# Altium integrated library Diodes - TVS.IntLib: 5379 symbols (part 8 of 122)
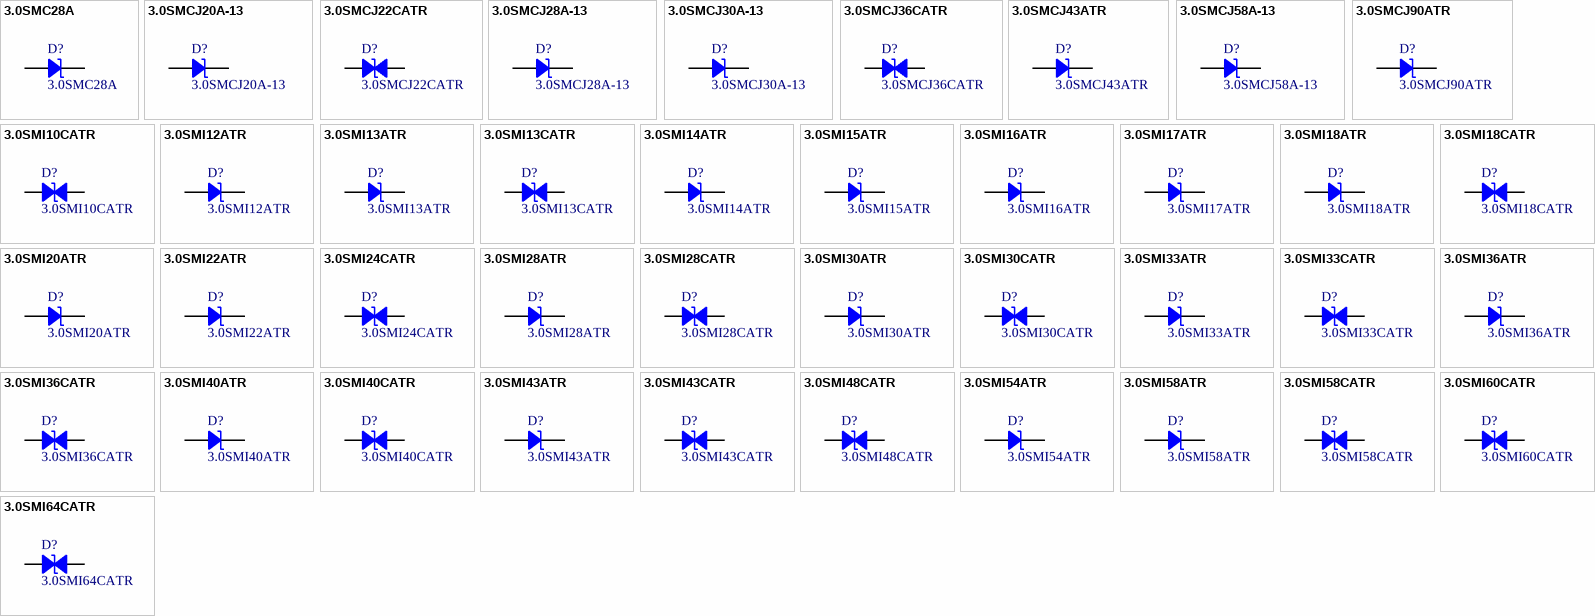
[diagram p141: symbols 3.0SMC28A to 3.0SMI64CATR]

## 3.0SMI30ATR
designator D?
DIODE TRANSIENT VOLTAGE SUPPRESS; Manufacturer: SMC Diode Solutions; Current - Peak Pulse (10/1000µs): 62A; Power Line Protection: No; Power - Peak Pulse: 3000W (3kW); Type: Zener; Unidirectional Channels: 1; Voltage - Breakdown (Min): 33.3V; Voltage - Clamping (Max) @ Ipp: 48.4V; Voltage - Reverse Standoff (Typ): 30V; Part Number: 3.0SMI30ATR; Applications: General Purpose; ComponentLink1Description: Datasheet; ComponentLink1URL: http://www.smc-diodes.com/propdf/3.0SMI%20SERIES%20N1804%20REV.A.pdf; ComponentLink2Description: DigiKey Link; ComponentLink2URL: http://digikey.com/product-detail/en/smc-diode-solutions/3.0SMI30ATR/1655-2059-1-ND/9566377; LastUpdated: 9/2/2020 1:20:03 AM; Lifecycle Status: Active; Minimum Order: 1; Mounting Type: Surface Mount; Operating Temperature: -55°C ~ 150°C (TJ); Package / Case: DO-214AB, SMC; Packaging: TapeAndReel; PartId: 6734; Part Status: Active; Price: 0.19; Series: 3.0SMI; Supplier 1: DigiKey; Supplier Part Number 1: 1655-2059-1-ND; Supplier Device Package: SMC (DO-214AB)
footprint DO214AB SMC
pins: 1, 2

## 3.0SMI30CATR
designator D?
DIODE TRANSIENT VOLTAGE SUPPRESS; Manufacturer: SMC Diode Solutions; Bidirectional Channels: 1; Current - Peak Pulse (10/1000µs): 62A; Power Line Protection: No; Power - Peak Pulse: 3000W (3kW); Type: Zener; Voltage - Breakdown (Min): 33.3V; Voltage - Clamping (Max) @ Ipp: 48.4V; Voltage - Reverse Standoff (Typ): 30V; Part Number: 3.0SMI30CATR; Applications: General Purpose; ComponentLink1Description: Datasheet; ComponentLink1URL: http://www.smc-diodes.com/propdf/3.0SMI%20SERIES%20N1804%20REV.A.pdf; ComponentLink2Description: DigiKey Link; ComponentLink2URL: http://digikey.com/product-detail/en/smc-diode-solutions/3.0SMI30CATR/1655-2060-1-ND/9566378; LastUpdated: 9/2/2020 1:28:05 AM; Lifecycle Status: Active; Minimum Order: 1; Mounting Type: Surface Mount; Operating Temperature: -55°C ~ 150°C (TJ); Package / Case: DO-214AB, SMC; Packaging: TapeAndReel; PartId: 8362; Part Status: Active; Price: 0.19; Series: 3.0SMI; Supplier 1: DigiKey; Supplier Part Number 1: 1655-2060-1-ND; Supplier Device Package: SMC (DO-214AB)
footprint DO214AB SMC
pins: 1, 2

## 3.0SMI33ATR
designator D?
DIODE TRANSIENT VOLTAGE SUPPRESS; Manufacturer: SMC Diode Solutions; Current - Peak Pulse (10/1000µs): 56.3A; Power Line Protection: No; Power - Peak Pulse: 3000W (3kW); Type: Zener; Unidirectional Channels: 1; Voltage - Breakdown (Min): 36.7V; Voltage - Clamping (Max) @ Ipp: 53.3V; Voltage - Reverse Standoff (Typ): 33V; Part Number: 3.0SMI33ATR; Applications: General Purpose; ComponentLink1Description: Datasheet; ComponentLink1URL: http://www.smc-diodes.com/propdf/3.0SMI%20SERIES%20N1804%20REV.A.pdf; ComponentLink2Description: DigiKey Link; ComponentLink2URL: http://digikey.com/product-detail/en/smc-diode-solutions/3.0SMI33ATR/1655-2061-1-ND/9566379; LastUpdated: 9/2/2020 1:20:03 AM; Lifecycle Status: Active; Minimum Order: 1; Mounting Type: Surface Mount; Operating Temperature: -55°C ~ 150°C (TJ); Package / Case: DO-214AB, SMC; Packaging: TapeAndReel; PartId: 6740; Part Status: Active; Price: 0.19; Series: 3.0SMI; Supplier 1: DigiKey; Supplier Part Number 1: 1655-2061-1-ND; Supplier Device Package: SMC (DO-214AB)
footprint DO214AB SMC
pins: 1, 2

## 3.0SMI33CATR
designator D?
DIODE TRANSIENT VOLTAGE SUPPRESS; Manufacturer: SMC Diode Solutions; Bidirectional Channels: 1; Current - Peak Pulse (10/1000µs): 56.3A; Power Line Protection: No; Power - Peak Pulse: 3000W (3kW); Type: Zener; Voltage - Breakdown (Min): 36.7V; Voltage - Clamping (Max) @ Ipp: 53.3V; Voltage - Reverse Standoff (Typ): 33V; Part Number: 3.0SMI33CATR; Applications: General Purpose; ComponentLink1Description: Datasheet; ComponentLink1URL: http://www.smc-diodes.com/propdf/3.0SMI%20SERIES%20N1804%20REV.A.pdf; ComponentLink2Description: DigiKey Link; ComponentLink2URL: http://digikey.com/product-detail/en/smc-diode-solutions/3.0SMI33CATR/1655-2062-1-ND/9566380; LastUpdated: 9/2/2020 1:28:05 AM; Lifecycle Status: Active; Minimum Order: 1; Mounting Type: Surface Mount; Operating Temperature: -55°C ~ 150°C (TJ); Package / Case: DO-214AB, SMC; Packaging: TapeAndReel; PartId: 8361; Part Status: Active; Price: 0.19; Series: 3.0SMI; Supplier 1: DigiKey; Supplier Part Number 1: 1655-2062-1-ND; Supplier Device Package: SMC (DO-214AB)
footprint DO214AB SMC
pins: 1, 2

## 3.0SMI36ATR
designator D?
DIODE TRANSIENT VOLTAGE SUPPRESS; Manufacturer: SMC Diode Solutions; Current - Peak Pulse (10/1000µs): 51.6A; Power Line Protection: No; Power - Peak Pulse: 3000W (3kW); Type: Zener; Unidirectional Channels: 1; Voltage - Breakdown (Min): 40V; Voltage - Clamping (Max) @ Ipp: 58.1V; Voltage - Reverse Standoff (Typ): 36V; Part Number: 3.0SMI36ATR; Applications: General Purpose; ComponentLink1Description: Datasheet; ComponentLink1URL: http://www.smc-diodes.com/propdf/3.0SMI%20SERIES%20N1804%20REV.A.pdf; ComponentLink2Description: DigiKey Link; ComponentLink2URL: http://digikey.com/product-detail/en/smc-diode-solutions/3.0SMI36ATR/1655-2063-1-ND/9566381; LastUpdated: 9/2/2020 1:20:03 AM; Lifecycle Status: Active; Minimum Order: 1; Mounting Type: Surface Mount; Operating Temperature: -55°C ~ 150°C (TJ); Package / Case: DO-214AB, SMC; Packaging: TapeAndReel; PartId: 6736; Part Status: Active; Price: 0.19; Series: 3.0SMI; Supplier 1: DigiKey; Supplier Part Number 1: 1655-2063-1-ND; Supplier Device Package: SMC (DO-214AB)
footprint DO214AB SMC
pins: 1, 2

## 3.0SMI36CATR
designator D?
DIODE TRANSIENT VOLTAGE SUPPRESS; Manufacturer: SMC Diode Solutions; Bidirectional Channels: 1; Current - Peak Pulse (10/1000µs): 51.6A; Power Line Protection: No; Power - Peak Pulse: 3000W (3kW); Type: Zener; Voltage - Breakdown (Min): 40V; Voltage - Clamping (Max) @ Ipp: 58.1V; Voltage - Reverse Standoff (Typ): 36V; Part Number: 3.0SMI36CATR; Applications: General Purpose; ComponentLink1Description: Datasheet; ComponentLink1URL: http://www.smc-diodes.com/propdf/3.0SMI%20SERIES%20N1804%20REV.A.pdf; ComponentLink2Description: DigiKey Link; ComponentLink2URL: http://digikey.com/product-detail/en/smc-diode-solutions/3.0SMI36CATR/1655-2064-1-ND/9566382; LastUpdated: 9/2/2020 1:28:05 AM; Lifecycle Status: Active; Minimum Order: 1; Mounting Type: Surface Mount; Operating Temperature: -55°C ~ 150°C (TJ); Package / Case: DO-214AB, SMC; Packaging: TapeAndReel; PartId: 8346; Part Status: Active; Price: 0.19; Series: 3.0SMI; Supplier 1: DigiKey; Supplier Part Number 1: 1655-2064-1-ND; Supplier Device Package: SMC (DO-214AB)
footprint DO214AB SMC
pins: 1, 2

## 3.0SMI40ATR
designator D?
DIODE TRANSIENT VOLTAGE SUPPRESS; Manufacturer: SMC Diode Solutions; Current - Peak Pulse (10/1000µs): 46.5A; Power Line Protection: No; Power - Peak Pulse: 3000W (3kW); Type: Zener; Unidirectional Channels: 1; Voltage - Breakdown (Min): 44.4V; Voltage - Clamping (Max) @ Ipp: 64.5V; Voltage - Reverse Standoff (Typ): 40V; Part Number: 3.0SMI40ATR; Applications: General Purpose; ComponentLink1Description: Datasheet; ComponentLink1URL: http://www.smc-diodes.com/propdf/3.0SMI%20SERIES%20N1804%20REV.A.pdf; ComponentLink2Description: DigiKey Link; ComponentLink2URL: http://digikey.com/product-detail/en/smc-diode-solutions/3.0SMI40ATR/1655-2065-1-ND/9566383; LastUpdated: 9/2/2020 1:20:02 AM; Lifecycle Status: Active; Minimum Order: 1; Mounting Type: Surface Mount; Operating Temperature: -55°C ~ 150°C (TJ); Package / Case: DO-214AB, SMC; Packaging: TapeAndReel; PartId: 6567; Part Status: Active; Price: 0.19; Series: 3.0SMI; Supplier 1: DigiKey; Supplier Part Number 1: 1655-2065-1-ND; Supplier Device Package: SMC (DO-214AB)
footprint DO214AB SMC
pins: 1, 2

## 3.0SMI40CATR
designator D?
DIODE TRANSIENT VOLTAGE SUPPRESS; Manufacturer: SMC Diode Solutions; Bidirectional Channels: 1; Current - Peak Pulse (10/1000µs): 46.5A; Power Line Protection: No; Power - Peak Pulse: 3000W (3kW); Type: Zener; Voltage - Breakdown (Min): 44.4V; Voltage - Clamping (Max) @ Ipp: 64.5V; Voltage - Reverse Standoff (Typ): 40V; Part Number: 3.0SMI40CATR; Applications: General Purpose; ComponentLink1Description: Datasheet; ComponentLink1URL: http://www.smc-diodes.com/propdf/3.0SMI%20SERIES%20N1804%20REV.A.pdf; ComponentLink2Description: DigiKey Link; ComponentLink2URL: http://digikey.com/product-detail/en/smc-diode-solutions/3.0SMI40CATR/1655-2066-1-ND/9566384; LastUpdated: 9/2/2020 1:28:05 AM; Lifecycle Status: Active; Minimum Order: 1; Mounting Type: Surface Mount; Operating Temperature: -55°C ~ 150°C (TJ); Package / Case: DO-214AB, SMC; Packaging: TapeAndReel; PartId: 8352; Part Status: Active; Price: 0.19; Series: 3.0SMI; Supplier 1: DigiKey; Supplier Part Number 1: 1655-2066-1-ND; Supplier Device Package: SMC (DO-214AB)
footprint DO214AB SMC
pins: 1, 2

## 3.0SMI43ATR
designator D?
DIODE TRANSIENT VOLTAGE SUPPRESS; Manufacturer: SMC Diode Solutions; Current - Peak Pulse (10/1000µs): 43.2A; Power Line Protection: No; Power - Peak Pulse: 3000W (3kW); Type: Zener; Unidirectional Channels: 1; Voltage - Breakdown (Min): 47.8V; Voltage - Clamping (Max) @ Ipp: 69.4V; Voltage - Reverse Standoff (Typ): 43V; Part Number: 3.0SMI43ATR; Applications: General Purpose; ComponentLink1Description: Datasheet; ComponentLink1URL: http://www.smc-diodes.com/propdf/3.0SMI%20SERIES%20N1804%20REV.A.pdf; ComponentLink2Description: DigiKey Link; ComponentLink2URL: http://digikey.com/product-detail/en/smc-diode-solutions/3.0SMI43ATR/1655-2067-1-ND/9566385; LastUpdated: 9/2/2020 1:20:03 AM; Lifecycle Status: Active; Minimum Order: 1; Mounting Type: Surface Mount; Operating Temperature: -55°C ~ 150°C (TJ); Package / Case: DO-214AB, SMC; Packaging: TapeAndReel; PartId: 6724; Part Status: Active; Price: 0.19; Series: 3.0SMI; Supplier 1: DigiKey; Supplier Part Number 1: 1655-2067-1-ND; Supplier Device Package: SMC (DO-214AB)
footprint DO214AB SMC
pins: 1, 2

## 3.0SMI43CATR
designator D?
DIODE TRANSIENT VOLTAGE SUPPRESS; Manufacturer: SMC Diode Solutions; Bidirectional Channels: 1; Current - Peak Pulse (10/1000µs): 43.2A; Power Line Protection: No; Power - Peak Pulse: 3000W (3kW); Type: Zener; Voltage - Breakdown (Min): 47.8V; Voltage - Clamping (Max) @ Ipp: 69.4V; Voltage - Reverse Standoff (Typ): 43V; Part Number: 3.0SMI43CATR; Applications: General Purpose; ComponentLink1Description: Datasheet; ComponentLink1URL: http://www.smc-diodes.com/propdf/3.0SMI%20SERIES%20N1804%20REV.A.pdf; ComponentLink2Description: DigiKey Link; ComponentLink2URL: http://digikey.com/product-detail/en/smc-diode-solutions/3.0SMI43CATR/1655-2068-1-ND/9566386; LastUpdated: 9/2/2020 1:28:05 AM; Lifecycle Status: Active; Minimum Order: 1; Mounting Type: Surface Mount; Operating Temperature: -55°C ~ 150°C (TJ); Package / Case: DO-214AB, SMC; Packaging: TapeAndReel; PartId: 8347; Part Status: Active; Price: 0.19; Series: 3.0SMI; Supplier 1: DigiKey; Supplier Part Number 1: 1655-2068-1-ND; Supplier Device Package: SMC (DO-214AB)
footprint DO214AB SMC
pins: 1, 2

## 3.0SMI48CATR
designator D?
DIODE TRANSIENT VOLTAGE SUPPRESS; Manufacturer: SMC Diode Solutions; Bidirectional Channels: 1; Current - Peak Pulse (10/1000µs): 38.8A; Power Line Protection: No; Power - Peak Pulse: 3000W (3kW); Type: Zener; Voltage - Breakdown (Min): 53.3V; Voltage - Clamping (Max) @ Ipp: 77.4V; Voltage - Reverse Standoff (Typ): 48V; Part Number: 3.0SMI48CATR; Applications: General Purpose; ComponentLink1Description: Datasheet; ComponentLink1URL: http://www.smc-diodes.com/propdf/3.0SMI%20SERIES%20N1804%20REV.A.pdf; ComponentLink2Description: DigiKey Link; ComponentLink2URL: http://digikey.com/product-detail/en/smc-diode-solutions/3.0SMI48CATR/1655-2072-1-ND/9566390; LastUpdated: 9/2/2020 1:28:05 AM; Lifecycle Status: Active; Minimum Order: 1; Mounting Type: Surface Mount; Operating Temperature: -55°C ~ 150°C (TJ); Package / Case: DO-214AB, SMC; Packaging: TapeAndReel; PartId: 8345; Part Status: Active; Price: 0.19; Series: 3.0SMI; Supplier 1: DigiKey; Supplier Part Number 1: 1655-2072-1-ND; Supplier Device Package: SMC (DO-214AB)
footprint DO214AB SMC
pins: 1, 2

## 3.0SMI54ATR
designator D?
DIODE TRANSIENT VOLTAGE SUPPRESS; Manufacturer: SMC Diode Solutions; Current - Peak Pulse (10/1000µs): 34.4A; Power Line Protection: No; Power - Peak Pulse: 3000W (3kW); Type: Zener; Unidirectional Channels: 1; Voltage - Breakdown (Min): 60V; Voltage - Clamping (Max) @ Ipp: 87.1V; Voltage - Reverse Standoff (Typ): 54V; Part Number: 3.0SMI54ATR; Applications: General Purpose; ComponentLink1Description: Datasheet; ComponentLink1URL: http://www.smc-diodes.com/propdf/3.0SMI%20SERIES%20N1804%20REV.A.pdf; ComponentLink2Description: DigiKey Link; ComponentLink2URL: http://digikey.com/product-detail/en/smc-diode-solutions/3.0SMI54ATR/1655-2075-1-ND/9566393; LastUpdated: 9/2/2020 1:20:03 AM; Lifecycle Status: Active; Minimum Order: 1; Mounting Type: Surface Mount; Operating Temperature: -55°C ~ 150°C (TJ); Package / Case: DO-214AB, SMC; Packaging: TapeAndReel; PartId: 6735; Part Status: Active; Price: 0.19; Series: 3.0SMI; Supplier 1: DigiKey; Supplier Part Number 1: 1655-2075-1-ND; Supplier Device Package: SMC (DO-214AB)
footprint DO214AB SMC
pins: 1, 2

## 3.0SMI58ATR
designator D?
DIODE TRANSIENT VOLTAGE SUPPRESS; Manufacturer: SMC Diode Solutions; Current - Peak Pulse (10/1000µs): 32.1A; Power Line Protection: No; Power - Peak Pulse: 3000W (3kW); Type: Zener; Unidirectional Channels: 1; Voltage - Breakdown (Min): 64.4V; Voltage - Clamping (Max) @ Ipp: 93.6V; Voltage - Reverse Standoff (Typ): 58V; Part Number: 3.0SMI58ATR; Applications: General Purpose; ComponentLink1Description: Datasheet; ComponentLink1URL: http://www.smc-diodes.com/propdf/3.0SMI%20SERIES%20N1804%20REV.A.pdf; ComponentLink2Description: DigiKey Link; ComponentLink2URL: http://digikey.com/product-detail/en/smc-diode-solutions/3.0SMI58ATR/1655-2077-1-ND/9566395; LastUpdated: 9/2/2020 1:20:03 AM; Lifecycle Status: Active; Minimum Order: 1; Mounting Type: Surface Mount; Operating Temperature: -55°C ~ 150°C (TJ); Package / Case: DO-214AB, SMC; Packaging: TapeAndReel; PartId: 6728; Part Status: Active; Price: 0.19; Series: 3.0SMI; Supplier 1: DigiKey; Supplier Part Number 1: 1655-2077-1-ND; Supplier Device Package: SMC (DO-214AB)
footprint DO214AB SMC
pins: 1, 2

## 3.0SMI58CATR
designator D?
DIODE TRANSIENT VOLTAGE SUPPRESS; Manufacturer: SMC Diode Solutions; Bidirectional Channels: 1; Current - Peak Pulse (10/1000µs): 32.1A; Power Line Protection: No; Power - Peak Pulse: 3000W (3kW); Type: Zener; Voltage - Breakdown (Min): 64.4V; Voltage - Clamping (Max) @ Ipp: 93.6V; Voltage - Reverse Standoff (Typ): 58V; Part Number: 3.0SMI58CATR; Applications: General Purpose; ComponentLink1Description: Datasheet; ComponentLink1URL: http://www.smc-diodes.com/propdf/3.0SMI%20SERIES%20N1804%20REV.A.pdf; ComponentLink2Description: DigiKey Link; ComponentLink2URL: http://digikey.com/product-detail/en/smc-diode-solutions/3.0SMI58CATR/1655-2078-1-ND/9566396; LastUpdated: 9/2/2020 1:28:05 AM; Lifecycle Status: Active; Minimum Order: 1; Mounting Type: Surface Mount; Operating Temperature: -55°C ~ 150°C (TJ); Package / Case: DO-214AB, SMC; Packaging: TapeAndReel; PartId: 8351; Part Status: Active; Price: 0.19; Series: 3.0SMI; Supplier 1: DigiKey; Supplier Part Number 1: 1655-2078-1-ND; Supplier Device Package: SMC (DO-214AB)
footprint DO214AB SMC
pins: 1, 2

## 3.0SMI60CATR
designator D?
DIODE TRANSIENT VOLTAGE SUPPRESS; Manufacturer: SMC Diode Solutions; Bidirectional Channels: 1; Current - Peak Pulse (10/1000µs): 31A; Power Line Protection: No; Power - Peak Pulse: 3000W (3kW); Type: Zener; Voltage - Breakdown (Min): 66.7V; Voltage - Clamping (Max) @ Ipp: 96.8V; Voltage - Reverse Standoff (Typ): 60V; Part Number: 3.0SMI60CATR; Applications: General Purpose; ComponentLink1Description: Datasheet; ComponentLink1URL: http://www.smc-diodes.com/propdf/3.0SMI%20SERIES%20N1804%20REV.A.pdf; ComponentLink2Description: DigiKey Link; ComponentLink2URL: http://digikey.com/product-detail/en/smc-diode-solutions/3.0SMI60CATR/1655-2080-1-ND/9566398; LastUpdated: 9/2/2020 1:28:05 AM; Lifecycle Status: Active; Minimum Order: 1; Mounting Type: Surface Mount; Operating Temperature: -55°C ~ 150°C (TJ); Package / Case: DO-214AB, SMC; Packaging: TapeAndReel; PartId: 8354; Part Status: Active; Price: 0.19; Series: 3.0SMI; Supplier 1: DigiKey; Supplier Part Number 1: 1655-2080-1-ND; Supplier Device Package: SMC (DO-214AB)
footprint DO214AB SMC
pins: 1, 2

## 3.0SMI64CATR
designator D?
DIODE TRANSIENT VOLTAGE SUPPRESS; Manufacturer: SMC Diode Solutions; Bidirectional Channels: 1; Current - Peak Pulse (10/1000µs): 29.1A; Power Line Protection: No; Power - Peak Pulse: 3000W (3kW); Type: Zener; Voltage - Breakdown (Min): 71.1V; Voltage - Clamping (Max) @ Ipp: 103V; Voltage - Reverse Standoff (Typ): 64V; Part Number: 3.0SMI64CATR; Applications: General Purpose; ComponentLink1Description: Datasheet; ComponentLink1URL: http://www.smc-diodes.com/propdf/3.0SMI%20SERIES%20N1804%20REV.A.pdf; ComponentLink2Description: DigiKey Link; ComponentLink2URL: http://digikey.com/product-detail/en/smc-diode-solutions/3.0SMI64CATR/1655-2082-1-ND/9566400; LastUpdated: 9/2/2020 1:28:05 AM; Lifecycle Status: Active; Minimum Order: 1; Mounting Type: Surface Mount; Operating Temperature: -55°C ~ 150°C (TJ); Package / Case: DO-214AB, SMC; Packaging: TapeAndReel; PartId: 8350; Part Status: Active; Price: 0.19; Series: 3.0SMI; Supplier 1: DigiKey; Supplier Part Number 1: 1655-2082-1-ND; Supplier Device Package: SMC (DO-214AB)
footprint DO214AB SMC
pins: 1, 2

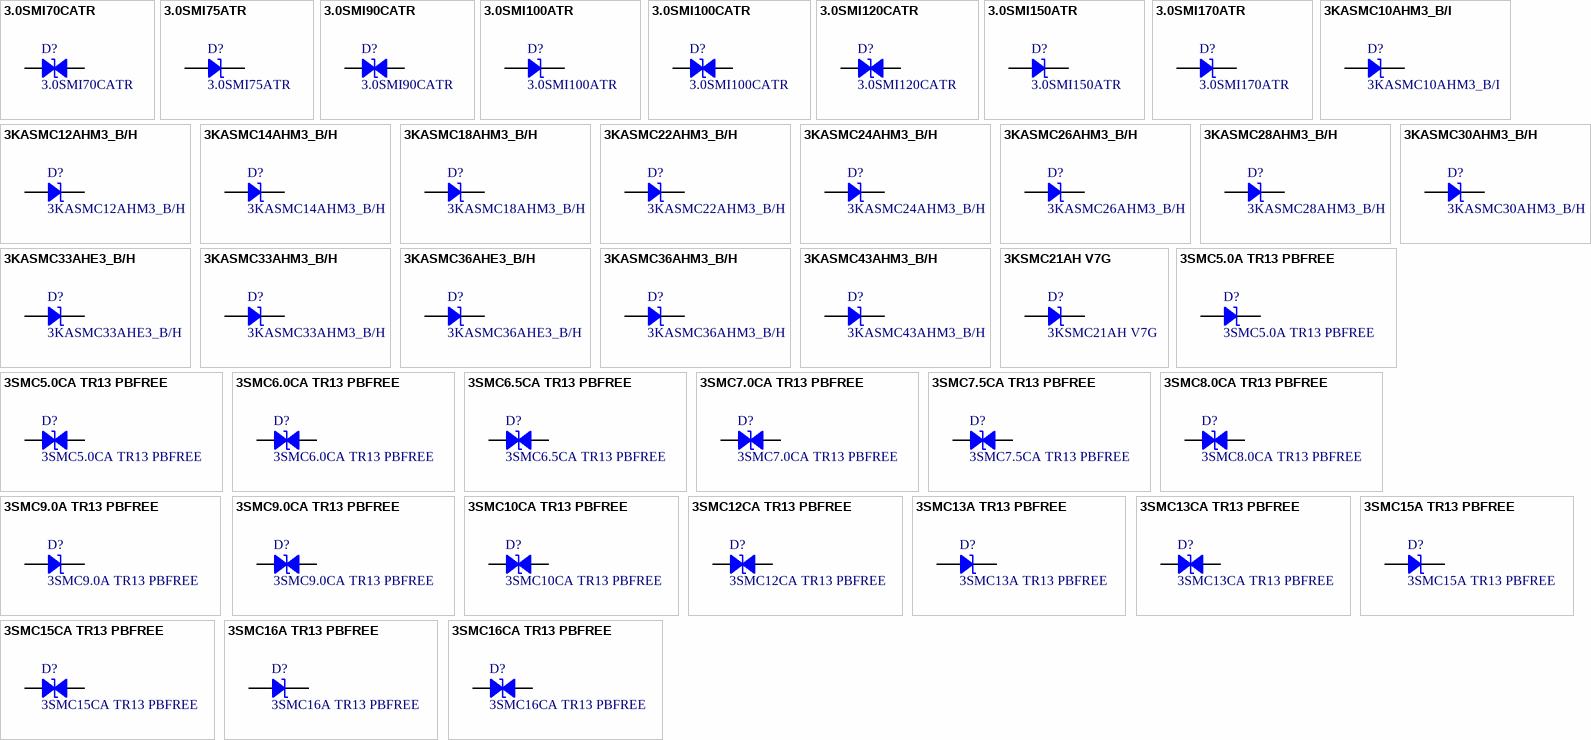
[diagram p8: symbols 3.0SMI70CATR to 3SMC16CA TR13 PBFREE]

## 3.0SMI70CATR
designator D?
DIODE TRANSIENT VOLTAGE SUPPRESS; Manufacturer: SMC Diode Solutions; Bidirectional Channels: 1; Current - Peak Pulse (10/1000µs): 26.5A; Power Line Protection: No; Power - Peak Pulse: 3000W (3kW); Type: Zener; Voltage - Breakdown (Min): 77.8V; Voltage - Clamping (Max) @ Ipp: 113V; Voltage - Reverse Standoff (Typ): 70V; Part Number: 3.0SMI70CATR; Applications: General Purpose; ComponentLink1Description: Datasheet; ComponentLink1URL: http://www.smc-diodes.com/propdf/3.0SMI%20SERIES%20N1804%20REV.A.pdf; ComponentLink2Description: DigiKey Link; ComponentLink2URL: http://digikey.com/product-detail/en/smc-diode-solutions/3.0SMI70CATR/1655-2084-1-ND/9566402; LastUpdated: 9/2/2020 1:28:05 AM; Lifecycle Status: Active; Minimum Order: 1; Mounting Type: Surface Mount; Operating Temperature: -55°C ~ 150°C (TJ); Package / Case: DO-214AB, SMC; Packaging: TapeAndReel; PartId: 8357; Part Status: Active; Price: 0.19; Series: 3.0SMI; Supplier 1: DigiKey; Supplier Part Number 1: 1655-2084-1-ND; Supplier Device Package: SMC (DO-214AB)
footprint DO214AB SMC
pins: 1, 2

## 3.0SMI75ATR
designator D?
DIODE TRANSIENT VOLTAGE SUPPRESS; Manufacturer: SMC Diode Solutions; Current - Peak Pulse (10/1000µs): 24.8A; Power Line Protection: No; Power - Peak Pulse: 3000W (3kW); Type: Zener; Unidirectional Channels: 1; Voltage - Breakdown (Min): 83.3V; Voltage - Clamping (Max) @ Ipp: 121V; Voltage - Reverse Standoff (Typ): 75V; Part Number: 3.0SMI75ATR; Applications: General Purpose; ComponentLink1Description: Datasheet; ComponentLink1URL: http://www.smc-diodes.com/propdf/3.0SMI%20SERIES%20N1804%20REV.A.pdf; ComponentLink2Description: DigiKey Link; ComponentLink2URL: http://digikey.com/product-detail/en/smc-diode-solutions/3.0SMI75ATR/1655-2085-1-ND/9566403; LastUpdated: 9/2/2020 1:20:02 AM; Lifecycle Status: Active; Minimum Order: 1; Mounting Type: Surface Mount; Operating Temperature: -55°C ~ 150°C (TJ); Package / Case: DO-214AB, SMC; Packaging: TapeAndReel; PartId: 6568; Part Status: Active; Price: 0.19; Series: 3.0SMI; Supplier 1: DigiKey; Supplier Part Number 1: 1655-2085-1-ND; Supplier Device Package: SMC (DO-214AB)
footprint DO214AB SMC
pins: 1, 2

## 3.0SMI90CATR
designator D?
DIODE TRANSIENT VOLTAGE SUPPRESS; Manufacturer: SMC Diode Solutions; Bidirectional Channels: 1; Current - Peak Pulse (10/1000µs): 20.5A; Power Line Protection: No; Power - Peak Pulse: 3000W (3kW); Type: Zener; Voltage - Breakdown (Min): 100V; Voltage - Clamping (Max) @ Ipp: 146V; Voltage - Reverse Standoff (Typ): 90V; Part Number: 3.0SMI90CATR; Applications: General Purpose; ComponentLink1Description: Datasheet; ComponentLink1URL: http://www.smc-diodes.com/propdf/3.0SMI%20SERIES%20N1804%20REV.A.pdf; ComponentLink2Description: DigiKey Link; ComponentLink2URL: http://digikey.com/product-detail/en/smc-diode-solutions/3.0SMI90CATR/1655-2092-1-ND/9566410; LastUpdated: 9/2/2020 1:28:05 AM; Lifecycle Status: Active; Minimum Order: 1; Mounting Type: Surface Mount; Operating Temperature: -55°C ~ 150°C (TJ); Package / Case: DO-214AB, SMC; Packaging: TapeAndReel; PartId: 8349; Part Status: Active; Price: 0.19; Series: 3.0SMI; Supplier 1: DigiKey; Supplier Part Number 1: 1655-2092-1-ND; Supplier Device Package: SMC (DO-214AB)
footprint DO214AB SMC
pins: 1, 2

## 3.0SMI100ATR
designator D?
DIODE TRANSIENT VOLTAGE SUPPRESS; Manufacturer: SMC Diode Solutions; Current - Peak Pulse (10/1000µs): 18.5A; Power Line Protection: No; Power - Peak Pulse: 3000W (3kW); Type: Zener; Unidirectional Channels: 1; Voltage - Breakdown (Min): 111V; Voltage - Clamping (Max) @ Ipp: 162V; Voltage - Reverse Standoff (Typ): 100V; Part Number: 3.0SMI100ATR; Applications: General Purpose; ComponentLink1Description: Datasheet; ComponentLink1URL: http://www.smc-diodes.com/propdf/3.0SMI%20SERIES%20N1804%20REV.A.pdf; ComponentLink2Description: DigiKey Link; ComponentLink2URL: http://digikey.com/product-detail/en/smc-diode-solutions/3.0SMI100ATR/1655-2093-1-ND/9566411; LastUpdated: 9/2/2020 1:20:03 AM; Lifecycle Status: Active; Minimum Order: 1; Mounting Type: Surface Mount; Operating Temperature: -55°C ~ 150°C (TJ); Package / Case: DO-214AB, SMC; Packaging: TapeAndReel; PartId: 6731; Part Status: Active; Price: 0.19; Series: 3.0SMI; Supplier 1: DigiKey; Supplier Part Number 1: 1655-2093-1-ND; Supplier Device Package: SMC (DO-214AB)
footprint DO214AB SMC
pins: 1, 2

## 3.0SMI100CATR
designator D?
DIODE TRANSIENT VOLTAGE SUPPRESS; Manufacturer: SMC Diode Solutions; Bidirectional Channels: 1; Current - Peak Pulse (10/1000µs): 18.5A; Power Line Protection: No; Power - Peak Pulse: 3000W (3kW); Type: Zener; Voltage - Breakdown (Min): 111V; Voltage - Clamping (Max) @ Ipp: 162V; Voltage - Reverse Standoff (Typ): 100V; Part Number: 3.0SMI100CATR; Applications: General Purpose; ComponentLink1Description: Datasheet; ComponentLink1URL: http://www.smc-diodes.com/propdf/3.0SMI%20SERIES%20N1804%20REV.A.pdf; ComponentLink2Description: DigiKey Link; ComponentLink2URL: http://digikey.com/product-detail/en/smc-diode-solutions/3.0SMI100CATR/1655-2094-1-ND/9566412; LastUpdated: 9/2/2020 1:28:05 AM; Lifecycle Status: Active; Minimum Order: 1; Mounting Type: Surface Mount; Operating Temperature: -55°C ~ 150°C (TJ); Package / Case: DO-214AB, SMC; Packaging: TapeAndReel; PartId: 8356; Part Status: Active; Price: 0.19; Series: 3.0SMI; Supplier 1: DigiKey; Supplier Part Number 1: 1655-2094-1-ND; Supplier Device Package: SMC (DO-214AB)
footprint DO214AB SMC
pins: 1, 2

## 3.0SMI120CATR
designator D?
DIODE TRANSIENT VOLTAGE SUPPRESS; Manufacturer: SMC Diode Solutions; Bidirectional Channels: 1; Current - Peak Pulse (10/1000µs): 15.5A; Power Line Protection: No; Power - Peak Pulse: 3000W (3kW); Type: Zener; Voltage - Breakdown (Min): 133V; Voltage - Clamping (Max) @ Ipp: 193V; Voltage - Reverse Standoff (Typ): 120V; Part Number: 3.0SMI120CATR; Applications: General Purpose; ComponentLink1Description: Datasheet; ComponentLink1URL: http://www.smc-diodes.com/propdf/3.0SMI%20SERIES%20N1804%20REV.A.pdf; ComponentLink2Description: DigiKey Link; ComponentLink2URL: http://digikey.com/product-detail/en/smc-diode-solutions/3.0SMI120CATR/1655-2098-1-ND/9566416; LastUpdated: 9/2/2020 1:28:05 AM; Lifecycle Status: Active; Minimum Order: 1; Mounting Type: Surface Mount; Operating Temperature: -55°C ~ 150°C (TJ); Package / Case: DO-214AB, SMC; Packaging: TapeAndReel; PartId: 8355; Part Status: Active; Price: 0.19; Series: 3.0SMI; Supplier 1: DigiKey; Supplier Part Number 1: 1655-2098-1-ND; Supplier Device Package: SMC (DO-214AB)
footprint DO214AB SMC
pins: 1, 2

## 3.0SMI150ATR
designator D?
DIODE TRANSIENT VOLTAGE SUPPRESS; Manufacturer: SMC Diode Solutions; Current - Peak Pulse (10/1000µs): 12.3A; Power Line Protection: No; Power - Peak Pulse: 3000W (3kW); Type: Zener; Unidirectional Channels: 1; Voltage - Breakdown (Min): 167V; Voltage - Clamping (Max) @ Ipp: 243V; Voltage - Reverse Standoff (Typ): 150V; Part Number: 3.0SMI150ATR; Applications: General Purpose; ComponentLink1Description: Datasheet; ComponentLink1URL: http://www.smc-diodes.com/propdf/3.0SMI%20SERIES%20N1804%20REV.A.pdf; ComponentLink2Description: DigiKey Link; ComponentLink2URL: http://digikey.com/product-detail/en/smc-diode-solutions/3.0SMI150ATR/1655-2101-1-ND/9566419; LastUpdated: 9/2/2020 1:20:03 AM; Lifecycle Status: Active; Minimum Order: 1; Mounting Type: Surface Mount; Operating Temperature: -55°C ~ 150°C (TJ); Package / Case: DO-214AB, SMC; Packaging: TapeAndReel; PartId: 6730; Part Status: Active; Price: 0.19; Series: 3.0SMI; Supplier 1: DigiKey; Supplier Part Number 1: 1655-2101-1-ND; Supplier Device Package: SMC (DO-214AB)
footprint DO214AB SMC
pins: 1, 2

## 3.0SMI170ATR
designator D?
DIODE TRANSIENT VOLTAGE SUPPRESS; Manufacturer: SMC Diode Solutions; Current - Peak Pulse (10/1000µs): 10.9A; Power Line Protection: No; Power - Peak Pulse: 3000W (3kW); Type: Zener; Unidirectional Channels: 1; Voltage - Breakdown (Min): 189V; Voltage - Clamping (Max) @ Ipp: 275V; Voltage - Reverse Standoff (Typ): 170V; Part Number: 3.0SMI170ATR; Applications: General Purpose; ComponentLink1Description: Datasheet; ComponentLink1URL: http://www.smc-diodes.com/propdf/3.0SMI%20SERIES%20N1804%20REV.A.pdf; ComponentLink2Description: DigiKey Link; ComponentLink2URL: http://digikey.com/product-detail/en/smc-diode-solutions/3.0SMI170ATR/1655-2105-1-ND/9566423; LastUpdated: 9/2/2020 1:20:03 AM; Lifecycle Status: Active; Minimum Order: 1; Mounting Type: Surface Mount; Operating Temperature: -55°C ~ 150°C (TJ); Package / Case: DO-214AB, SMC; Packaging: TapeAndReel; PartId: 6729; Part Status: Active; Price: 0.19; Series: 3.0SMI; Supplier 1: DigiKey; Supplier Part Number 1: 1655-2105-1-ND; Supplier Device Package: SMC (DO-214AB)
footprint DO214AB SMC
pins: 1, 2

## 3KASMC10AHM3_B/I
designator D?
TVS DIODE 10V 17V DO214AB; Manufacturer: Vishay Semiconductor Diodes Division; Current - Peak Pulse (10/1000µs): 177A; Power Line Protection: No; Power - Peak Pulse: 3000W (3kW); Type: Zener; Unidirectional Channels: 1; Voltage - Breakdown (Min): 11.1V; Part Number: 3KASMC10AHM3_B/I; Applications: Automotive; ComponentLink1Description: Datasheet; ComponentLink1URL: http://www.vishay.com/docs/88480/3kasmc.pdf; ComponentLink2Description: DigiKey Link; ComponentLink2URL: http://digikey.com/product-detail/en/vishay-semiconductor-diodes-division/3KASMC10AHM3_B-I/3KASMC10AHM3_B-IGICT-ND/6710005; LastUpdated: 9/2/2020 1:19:58 AM; Lifecycle Status: Active; Minimum Order: 1; Mounting Type: Surface Mount; Operating Temperature: -65°C ~ 185°C (TJ); Package / Case: DO-214AB, SMC; Packaging: TapeAndReel; PartId: 6247; Part Status: Active; Price: 0.53; Series: Automotive, AEC-Q101, PAR®; Supplier 1: DigiKey; Supplier Part Number 1: 3KASMC10AHM3_B/IGICT-ND; Supplier Device Package: DO-214AB (SMCJ); Voltage - Clamping (Max) @ Ipp: 17V; Voltage - Reverse Standoff (Typ): 10V
footprint DO214AB SMC
pins: 1, 2

## 3KASMC12AHM3_B/H
designator D?
TVS DIODE 12V 19.9V DO214AB; Manufacturer: Vishay Semiconductor Diodes Division; Current - Peak Pulse (10/1000µs): 151A; Power Line Protection: No; Power - Peak Pulse: 3000W (3kW); Type: Zener; Unidirectional Channels: 1; Voltage - Breakdown (Min): 13.3V; Part Number: 3KASMC12AHM3_B/H; Applications: Automotive; ComponentLink1Description: Datasheet; ComponentLink1URL: http://www.vishay.com/docs/88480/3kasmc.pdf; ComponentLink2Description: DigiKey Link; ComponentLink2URL: http://digikey.com/product-detail/en/vishay-semiconductor-diodes-division/3KASMC12AHM3_B-H/3KASMC12AHM3_B-HGICT-ND/6710006; LastUpdated: 9/2/2020 1:19:58 AM; Lifecycle Status: Active; Minimum Order: 1; Mounting Type: Surface Mount; Operating Temperature: -65°C ~ 185°C (TJ); Package / Case: DO-214AB, SMC; Packaging: TapeAndReel; PartId: 6248; Part Status: Active; Price: 0.66; Series: Automotive, AEC-Q101, PAR®; Supplier 1: DigiKey; Supplier Part Number 1: 3KASMC12AHM3_B/HGICT-ND; Supplier Device Package: DO-214AB (SMCJ); Voltage - Clamping (Max) @ Ipp: 19.9V; Voltage - Reverse Standoff (Typ): 12V
footprint DO214AB SMC
pins: 1, 2

## 3KASMC14AHM3_B/H
designator D?
TVS DIODE 14V 23.2V DO214AB; Manufacturer: Vishay Semiconductor Diodes Division; Current - Peak Pulse (10/1000µs): 129A; Power Line Protection: No; Power - Peak Pulse: 3000W (3kW); Type: Zener; Unidirectional Channels: 1; Voltage - Breakdown (Min): 15.6V; Part Number: 3KASMC14AHM3_B/H; Applications: Automotive; ComponentLink1Description: Datasheet; ComponentLink1URL: http://www.vishay.com/docs/88480/3kasmc.pdf; ComponentLink2Description: DigiKey Link; ComponentLink2URL: http://digikey.com/product-detail/en/vishay-semiconductor-diodes-division/3KASMC14AHM3_B-H/3KASMC14AHM3_B-HGICT-ND/6710007; LastUpdated: 9/2/2020 1:20:05 AM; Lifecycle Status: Active; Minimum Order: 1; Mounting Type: Surface Mount; Operating Temperature: -65°C ~ 185°C (TJ); Package / Case: DO-214AB, SMC; Packaging: TapeAndReel; PartId: 6973; Part Status: Active; Price: 0.66; Series: Automotive, AEC-Q101, PAR®; Supplier 1: DigiKey; Supplier Part Number 1: 3KASMC14AHM3_B/HGICT-ND; Supplier Device Package: DO-214AB (SMCJ); Voltage - Clamping (Max) @ Ipp: 23.2V; Voltage - Reverse Standoff (Typ): 14V
footprint DO214AB SMC
pins: 1, 2

## 3KASMC18AHM3_B/H
designator D?
TVS DIODE 18V 29.2V DO214AB; Manufacturer: Vishay Semiconductor Diodes Division; Current - Peak Pulse (10/1000µs): 103A; Power Line Protection: No; Power - Peak Pulse: 3000W (3kW); Type: Zener; Unidirectional Channels: 1; Voltage - Breakdown (Min): 20V; Part Number: 3KASMC18AHM3_B/H; Applications: Automotive; ComponentLink1Description: Datasheet; ComponentLink1URL: http://www.vishay.com/docs/88480/3kasmc.pdf; ComponentLink2Description: DigiKey Link; ComponentLink2URL: http://digikey.com/product-detail/en/vishay-semiconductor-diodes-division/3KASMC18AHM3_B-H/3KASMC18AHM3_B-HGICT-ND/6710008; LastUpdated: 9/2/2020 1:20:05 AM; Lifecycle Status: Active; Minimum Order: 1; Mounting Type: Surface Mount; Operating Temperature: -65°C ~ 185°C (TJ); Package / Case: DO-214AB, SMC; Packaging: TapeAndReel; PartId: 6969; Part Status: Active; Price: 0.66; Series: Automotive, AEC-Q101, PAR®; Supplier 1: DigiKey; Supplier Part Number 1: 3KASMC18AHM3_B/HGICT-ND; Supplier Device Package: DO-214AB (SMCJ); Voltage - Clamping (Max) @ Ipp: 29.2V; Voltage - Reverse Standoff (Typ): 18V
footprint DO214AB SMC
pins: 1, 2

## 3KASMC22AHM3_B/H
designator D?
TVS DIODE 22V 35.5V DO214AB; Manufacturer: Vishay Semiconductor Diodes Division; Current - Peak Pulse (10/1000µs): 84.5A; Power Line Protection: No; Power - Peak Pulse: 3000W (3kW); Type: Zener; Unidirectional Channels: 1; Voltage - Breakdown (Min): 24.4V; Part Number: 3KASMC22AHM3_B/H; Applications: Automotive; ComponentLink1Description: Datasheet; ComponentLink1URL: http://www.vishay.com/docs/88480/3kasmc.pdf; ComponentLink2Description: DigiKey Link; ComponentLink2URL: http://digikey.com/product-detail/en/vishay-semiconductor-diodes-division/3KASMC22AHM3_B-H/3KASMC22AHM3_B-HGICT-ND/6710009; LastUpdated: 9/2/2020 1:19:58 AM; Lifecycle Status: Active; Minimum Order: 1; Mounting Type: Surface Mount; Operating Temperature: -65°C ~ 185°C (TJ); Package / Case: DO-214AB, SMC; Packaging: TapeAndReel; PartId: 6246; Part Status: Active; Price: 0.66; Series: Automotive, AEC-Q101, PAR®; Supplier 1: DigiKey; Supplier Part Number 1: 3KASMC22AHM3_B/HGICT-ND; Supplier Device Package: DO-214AB (SMCJ); Voltage - Clamping (Max) @ Ipp: 35.5V; Voltage - Reverse Standoff (Typ): 22V
footprint DO214AB SMC
pins: 1, 2

## 3KASMC24AHM3_B/H
designator D?
TVS DIODE 24V 38.9V DO214AB; Manufacturer: Vishay Semiconductor Diodes Division; Current - Peak Pulse (10/1000µs): 77.1A; Power Line Protection: No; Power - Peak Pulse: 3000W (3kW); Type: Zener; Unidirectional Channels: 1; Voltage - Breakdown (Min): 26.7V; Part Number: 3KASMC24AHM3_B/H; Applications: Automotive; ComponentLink1Description: Datasheet; ComponentLink1URL: http://www.vishay.com/docs/88480/3kasmc.pdf; ComponentLink2Description: DigiKey Link; ComponentLink2URL: http://digikey.com/product-detail/en/vishay-semiconductor-diodes-division/3KASMC24AHM3_B-H/3KASMC24AHM3_B-HGICT-ND/6710010; LastUpdated: 9/2/2020 1:20:05 AM; Lifecycle Status: Active; Minimum Order: 1; Mounting Type: Surface Mount; Operating Temperature: -65°C ~ 185°C (TJ); Package / Case: DO-214AB, SMC; Packaging: TapeAndReel; PartId: 6970; Part Status: Active; Price: 0.66; Series: Automotive, AEC-Q101, PAR®; Supplier 1: DigiKey; Supplier Part Number 1: 3KASMC24AHM3_B/HGICT-ND; Supplier Device Package: DO-214AB (SMCJ); Voltage - Clamping (Max) @ Ipp: 38.9V; Voltage - Reverse Standoff (Typ): 24V
footprint DO214AB SMC
pins: 1, 2

## 3KASMC26AHM3_B/H
designator D?
TVS DIODE 26V 42.1V DO214AB; Manufacturer: Vishay Semiconductor Diodes Division; Current - Peak Pulse (10/1000µs): 71.3A; Power Line Protection: No; Power - Peak Pulse: 3000W (3kW); Type: Zener; Unidirectional Channels: 1; Voltage - Breakdown (Min): 28.9V; Part Number: 3KASMC26AHM3_B/H; Applications: Automotive; ComponentLink1Description: Datasheet; ComponentLink1URL: http://www.vishay.com/docs/88480/3kasmc.pdf; ComponentLink2Description: DigiKey Link; ComponentLink2URL: http://digikey.com/product-detail/en/vishay-semiconductor-diodes-division/3KASMC26AHM3_B-H/3KASMC26AHM3_B-HGICT-ND/6710011; LastUpdated: 9/2/2020 1:20:05 AM; Lifecycle Status: Active; Minimum Order: 1; Mounting Type: Surface Mount; Operating Temperature: -65°C ~ 185°C (TJ); Package / Case: DO-214AB, SMC; Packaging: TapeAndReel; PartId: 6971; Part Status: Active; Price: 0.66; Series: Automotive, AEC-Q101, PAR®; Supplier 1: DigiKey; Supplier Part Number 1: 3KASMC26AHM3_B/HGICT-ND; Supplier Device Package: DO-214AB (SMCJ); Voltage - Clamping (Max) @ Ipp: 42.1V; Voltage - Reverse Standoff (Typ): 26V
footprint DO214AB SMC
pins: 1, 2

## 3KASMC28AHM3_B/H
designator D?
TVS DIODE 28V 45.4V DO214AB; Manufacturer: Vishay Semiconductor Diodes Division; Current - Peak Pulse (10/1000µs): 66.1A; Power Line Protection: No; Power - Peak Pulse: 3000W (3kW); Type: Zener; Unidirectional Channels: 1; Voltage - Breakdown (Min): 31.1V; Part Number: 3KASMC28AHM3_B/H; Applications: Automotive; ComponentLink1Description: Datasheet; ComponentLink1URL: http://www.vishay.com/docs/88480/3kasmc.pdf; ComponentLink2Description: DigiKey Link; ComponentLink2URL: http://digikey.com/product-detail/en/vishay-semiconductor-diodes-division/3KASMC28AHM3_B-H/3KASMC28AHM3_B-HGICT-ND/6710012; LastUpdated: 9/2/2020 1:20:05 AM; Lifecycle Status: Active; Minimum Order: 1; Mounting Type: Surface Mount; Operating Temperature: -65°C ~ 185°C (TJ); Package / Case: DO-214AB, SMC; Packaging: TapeAndReel; PartId: 6976; Part Status: Active; Price: 0.66; Series: Automotive, AEC-Q101, PAR®; Supplier 1: DigiKey; Supplier Part Number 1: 3KASMC28AHM3_B/HGICT-ND; Supplier Device Package: DO-214AB (SMCJ); Voltage - Clamping (Max) @ Ipp: 45.4V; Voltage - Reverse Standoff (Typ): 28V
footprint DO214AB SMC
pins: 1, 2

## 3KASMC30AHM3_B/H
designator D?
TVS DIODE 30V 48.4V DO214AB; Manufacturer: Vishay Semiconductor Diodes Division; Current - Peak Pulse (10/1000µs): 62A; Power Line Protection: No; Power - Peak Pulse: 3000W (3kW); Type: Zener; Unidirectional Channels: 1; Voltage - Breakdown (Min): 33.3V; Part Number: 3KASMC30AHM3_B/H; Applications: Automotive; ComponentLink1Description: Datasheet; ComponentLink1URL: http://www.vishay.com/docs/88480/3kasmc.pdf; ComponentLink2Description: DigiKey Link; ComponentLink2URL: http://digikey.com/product-detail/en/vishay-semiconductor-diodes-division/3KASMC30AHM3_B-H/3KASMC30AHM3_B-HGICT-ND/6710013; LastUpdated: 9/2/2020 1:20:05 AM; Lifecycle Status: Active; Minimum Order: 1; Mounting Type: Surface Mount; Operating Temperature: -65°C ~ 185°C (TJ); Package / Case: DO-214AB, SMC; Packaging: TapeAndReel; PartId: 6974; Part Status: Active; Price: 0.66; Series: Automotive, AEC-Q101, PAR®; Supplier 1: DigiKey; Supplier Part Number 1: 3KASMC30AHM3_B/HGICT-ND; Supplier Device Package: DO-214AB (SMCJ); Voltage - Clamping (Max) @ Ipp: 48.4V; Voltage - Reverse Standoff (Typ): 30V
footprint DO214AB SMC
pins: 1, 2

## 3KASMC33AHE3_B/H
designator D?
TVS DIODE 33V 53.3V DO214AB; Manufacturer: Vishay Semiconductor Diodes Division; Current - Peak Pulse (10/1000µs): 56.3A; Power Line Protection: No; Power - Peak Pulse: 3000W (3kW); Type: Zener; Unidirectional Channels: 1; Voltage - Breakdown (Min): 36.7V; Part Number: 3KASMC33AHE3_B/H; Applications: Automotive; ComponentLink1Description: Datasheet; ComponentLink1URL: http://www.vishay.com/docs/88480/3kasmc.pdf; ComponentLink2Description: DigiKey Link; ComponentLink2URL: http://digikey.com/product-detail/en/vishay-semiconductor-diodes-division/3KASMC33AHE3_B-H/3KASMC33AHE3_B-HGICT-ND/9600391; LastUpdated: 9/2/2020 1:19:58 AM; Lifecycle Status: Active; Minimum Order: 1; Mounting Type: Surface Mount; Operating Temperature: -65°C ~ 185°C (TJ); Package / Case: DO-214AB, SMC; Packaging: TapeAndReel; PartId: 6249; Part Status: Active; Price: 0.66; Series: Automotive, AEC-Q101, PAR®; Supplier 1: DigiKey; Supplier Part Number 1: 3KASMC33AHE3_B/HGICT-ND; Supplier Device Package: DO-214AB (SMC); Voltage - Clamping (Max) @ Ipp: 53.3V; Voltage - Reverse Standoff (Typ): 33V
footprint DO214AB SMC
pins: 1, 2

## 3KASMC33AHM3_B/H
designator D?
TVS DIODE 33V 53.3V DO214AB; Manufacturer: Vishay Semiconductor Diodes Division; Current - Peak Pulse (10/1000µs): 56.3A; Power Line Protection: No; Power - Peak Pulse: 3000W (3kW); Type: Zener; Unidirectional Channels: 1; Voltage - Breakdown (Min): 36.7V; Part Number: 3KASMC33AHM3_B/H; Applications: Automotive; ComponentLink1Description: Datasheet; ComponentLink1URL: http://www.vishay.com/docs/88480/3kasmc.pdf; ComponentLink2Description: DigiKey Link; ComponentLink2URL: http://digikey.com/product-detail/en/vishay-semiconductor-diodes-division/3KASMC33AHM3_B-H/3KASMC33AHM3_B-HGICT-ND/6710014; LastUpdated: 9/2/2020 1:20:05 AM; Lifecycle Status: Active; Minimum Order: 1; Mounting Type: Surface Mount; Operating Temperature: -65°C ~ 185°C (TJ); Package / Case: DO-214AB, SMC; Packaging: TapeAndReel; PartId: 6977; Part Status: Active; Price: 0.66; Series: Automotive, AEC-Q101, PAR®; Supplier 1: DigiKey; Supplier Part Number 1: 3KASMC33AHM3_B/HGICT-ND; Supplier Device Package: DO-214AB (SMCJ); Voltage - Clamping (Max) @ Ipp: 53.3V; Voltage - Reverse Standoff (Typ): 33V
footprint DO214AB SMC
pins: 1, 2

## 3KASMC36AHE3_B/H
designator D?
TVS DIODE 36V 58.1V DO214AB; Manufacturer: Vishay Semiconductor Diodes Division; Current - Peak Pulse (10/1000µs): 51.6A; Power Line Protection: No; Power - Peak Pulse: 3000W (3kW); Type: Zener; Unidirectional Channels: 1; Voltage - Breakdown (Min): 40V; Part Number: 3KASMC36AHE3_B/H; Applications: Automotive; ComponentLink1Description: Datasheet; ComponentLink1URL: http://www.vishay.com/docs/88480/3kasmc.pdf; ComponentLink2Description: DigiKey Link; ComponentLink2URL: http://digikey.com/product-detail/en/vishay-semiconductor-diodes-division/3KASMC36AHE3_B-H/3KASMC36AHE3_B-HGICT-ND/6710015; LastUpdated: 9/2/2020 1:20:00 AM; Lifecycle Status: Active; Minimum Order: 1; Mounting Type: Surface Mount; Operating Temperature: -65°C ~ 185°C (TJ); Package / Case: DO-214AB, SMC; Packaging: TapeAndReel; PartId: 6447; Part Status: Active; Price: 0.66; Series: Automotive, AEC-Q101, PAR®; Supplier 1: DigiKey; Supplier Part Number 1: 3KASMC36AHE3_B/HGICT-ND; Supplier Device Package: DO-214AB (SMCJ); Voltage - Clamping (Max) @ Ipp: 58.1V; Voltage - Reverse Standoff (Typ): 36V
footprint DO214AB SMC
pins: 1, 2

## 3KASMC36AHM3_B/H
designator D?
TVS DIODE 36V 58.1V DO214AB; Manufacturer: Vishay Semiconductor Diodes Division; Current - Peak Pulse (10/1000µs): 51.6A; Power Line Protection: No; Power - Peak Pulse: 3000W (3kW); Type: Zener; Unidirectional Channels: 1; Voltage - Breakdown (Min): 40V; Part Number: 3KASMC36AHM3_B/H; Applications: Automotive; ComponentLink1Description: Datasheet; ComponentLink1URL: http://www.vishay.com/docs/88480/3kasmc.pdf; ComponentLink2Description: DigiKey Link; ComponentLink2URL: http://digikey.com/product-detail/en/vishay-semiconductor-diodes-division/3KASMC36AHM3_B-H/3KASMC36AHM3_B-HGICT-ND/6710016; LastUpdated: 9/2/2020 1:20:05 AM; Lifecycle Status: Active; Minimum Order: 1; Mounting Type: Surface Mount; Operating Temperature: -65°C ~ 185°C (TJ); Package / Case: DO-214AB, SMC; Packaging: TapeAndReel; PartId: 6975; Part Status: Active; Price: 0.66; Series: Automotive, AEC-Q101, PAR®; Supplier 1: DigiKey; Supplier Part Number 1: 3KASMC36AHM3_B/HGICT-ND; Supplier Device Package: DO-214AB (SMCJ); Voltage - Clamping (Max) @ Ipp: 58.1V; Voltage - Reverse Standoff (Typ): 36V
footprint DO214AB SMC
pins: 1, 2

## 3KASMC43AHM3_B/H
designator D?
TVS DIODE 43V 69.4V DO214AB; Manufacturer: Vishay Semiconductor Diodes Division; Current - Peak Pulse (10/1000µs): 43.2A; Power Line Protection: No; Power - Peak Pulse: 3000W (3kW); Type: Zener; Unidirectional Channels: 1; Voltage - Breakdown (Min): 47.8V; Part Number: 3KASMC43AHM3_B/H; Applications: Automotive; ComponentLink1Description: Datasheet; ComponentLink1URL: http://www.vishay.com/docs/88480/3kasmc.pdf; ComponentLink2Description: DigiKey Link; ComponentLink2URL: http://digikey.com/product-detail/en/vishay-semiconductor-diodes-division/3KASMC43AHM3_B-H/3KASMC43AHM3_B-HGICT-ND/6710017; LastUpdated: 9/2/2020 1:20:05 AM; Lifecycle Status: Active; Minimum Order: 1; Mounting Type: Surface Mount; Operating Temperature: -65°C ~ 185°C (TJ); Package / Case: DO-214AB, SMC; Packaging: TapeAndReel; PartId: 6972; Part Status: Active; Price: 0.66; Series: Automotive, AEC-Q101, PAR®; Supplier 1: DigiKey; Supplier Part Number 1: 3KASMC43AHM3_B/HGICT-ND; Supplier Device Package: DO-214AB (SMCJ); Voltage - Clamping (Max) @ Ipp: 69.4V; Voltage - Reverse Standoff (Typ): 43V
footprint DO214AB SMC
pins: 1, 2

## 3KSMC21AH V7G
designator D?
3000W, 21.1V, 5%, UNIDIRECTIONAL; Manufacturer: Taiwan Semiconductor Corporation; Current - Peak Pulse (10/1000µs): 102.7A; Power Line Protection: No; Power - Peak Pulse: 3000W (3kW); Type: DO-214AB, SMC; Unidirectional Channels: 1; Voltage - Breakdown (Min): 20V; Voltage - Clamping (Max) @ Ipp: 29.2V; Voltage - Reverse Standoff (Typ): 18V (Max); Part Number: 3KSMC21AH V7G; Applications: Automotive; ComponentLink1Description: Datasheet; ComponentLink1URL: https://www.taiwansemi.com/products/datasheet/3KSMC21AH_A1910.pdf; ComponentLink2Description: DigiKey Link; ComponentLink2URL: http://digikey.com/product-detail/en/taiwan-semiconductor-corporation/3KSMC21AH-V7G/1801-3KSMC21AHV7GCT-ND/11306891; LastUpdated: 9/2/2020 1:19:58 AM; Lifecycle Status: Active; Minimum Order: 1; Mounting Type: Surface Mount; Operating Temperature: -55°C ~ 175°C (TJ); Package / Case: DO-214AB, SMC; Packaging: Unknown; PartId: 6220; Part Status: Active; Price: 0.84; Series: Automotive, AEC-Q100; Supplier 1: DigiKey; Supplier Part Number 1: 1801-3KSMC21AHV7GCT-ND; Supplier Device Package: DO-214AB (SMC)
footprint DO214AB SMC
pins: 1, 2

## 3SMC5.0A TR13 PBFREE
designator D?
TVS DIODE 5V 9.2V SMC; Manufacturer: Central Semiconductor Corp; Current - Peak Pulse (10/1000µs): 326A; Power Line Protection: No; Power - Peak Pulse: 3000W (3kW); Type: Zener; Unidirectional Channels: 1; Voltage - Breakdown (Min): 6.4V; Part Number: 3SMC5.0A TR13 PBFREE; Applications: General Purpose; ComponentLink1Description: Datasheet; ComponentLink1URL: https://my.centralsemi.com/get_document.php?cmp=1&mergetype=pd&mergepath=pd&pdf_id=3SMC5.0A_THRU_3SMC170A_R1.PDF; ComponentLink2Description: DigiKey Link; ComponentLink2URL: http://digikey.com/product-detail/en/central-semiconductor-corp/3SMC5.0A-TR13-PBFREE/1514-3SMC5.0ATR13PBFREECT-ND/5211124; LastUpdated: 9/2/2020 1:20:05 AM; Lifecycle Status: Active; Minimum Order: 1; Mounting Type: Surface Mount; Operating Temperature: -65°C ~ 150°C (TJ); Package / Case: DO-214AB, SMC; Packaging: CutTape; PartId: 6900; Part Status: Active; Price: 3.96; Series: -; Supplier 1: DigiKey; Supplier Part Number 1: 1514-3SMC5.0ATR13PBFREECT-ND; Supplier Device Package: SMC; Voltage - Clamping (Max) @ Ipp: 9.2V; Voltage - Reverse Standoff (Typ): 5V
footprint DO214AB SMC
pins: 1, 2

## 3SMC5.0CA TR13 PBFREE
designator D?
TVS DIODE 5V 9.2V SMC; Manufacturer: Central Semiconductor Corp; Bidirectional Channels: 1; Current - Peak Pulse (10/1000µs): 326A; Power Line Protection: No; Power - Peak Pulse: 3000W (3kW); Type: Zener; Voltage - Breakdown (Min): 6.4V; Part Number: 3SMC5.0CA TR13 PBFREE; Applications: General Purpose; ComponentLink1Description: Datasheet; ComponentLink1URL: https://my.centralsemi.com/get_document.php?cmp=1&mergetype=pd&mergepath=pd&pdf_id=3SMC5.0CA_THRU_3SMC170CA.PDF; ComponentLink2Description: DigiKey Link; ComponentLink2URL: http://digikey.com/product-detail/en/central-semiconductor-corp/3SMC5.0CA-TR13-PBFREE/1514-3SMC5.0CATR13PBFREECT-ND/5211125; LastUpdated: 9/2/2020 1:28:06 AM; Lifecycle Status: Active; Minimum Order: 1; Mounting Type: Surface Mount; Operating Temperature: -65°C ~ 150°C (TJ); Package / Case: DO-214AB, SMC; Packaging: CutTape; PartId: 8460; Part Status: Active; Price: 5.32; Series: -; Supplier 1: DigiKey; Supplier Part Number 1: 1514-3SMC5.0CATR13PBFREECT-ND; Supplier Device Package: SMC; Voltage - Clamping (Max) @ Ipp: 9.2V; Voltage - Reverse Standoff (Typ): 5V
footprint DO214AB SMC
pins: 1, 2

## 3SMC6.0CA TR13 PBFREE
designator D?
TVS DIODE 6V 10.3V SMC; Manufacturer: Central Semiconductor Corp; Bidirectional Channels: 1; Current - Peak Pulse (10/1000µs): 291.3A; Power Line Protection: No; Power - Peak Pulse: 3000W (3kW); Type: Zener; Voltage - Breakdown (Min): 6.67V; Part Number: 3SMC6.0CA TR13 PBFREE; Applications: General Purpose; ComponentLink1Description: Datasheet; ComponentLink1URL: https://my.centralsemi.com/get_document.php?cmp=1&mergetype=pd&mergepath=pd&pdf_id=3SMC5.0CA_THRU_3SMC170CA.PDF; ComponentLink2Description: DigiKey Link; ComponentLink2URL: http://digikey.com/product-detail/en/central-semiconductor-corp/3SMC6.0CA-TR13-PBFREE/1514-3SMC6.0CATR13PBFREECT-ND/5211133; LastUpdated: 9/2/2020 1:28:03 AM; Lifecycle Status: Active; Minimum Order: 1; Mounting Type: Surface Mount; Operating Temperature: -65°C ~ 150°C (TJ); Package / Case: DO-214AB, SMC; Packaging: TapeAndReel; PartId: 8077; Part Status: Active; Price: 1.96; Series: -; Supplier 1: DigiKey; Supplier Part Number 1: 1514-3SMC6.0CATR13PBFREECT-ND; Supplier Device Package: SMC; Voltage - Clamping (Max) @ Ipp: 10.3V; Voltage - Reverse Standoff (Typ): 6V
footprint DO214AB SMC
pins: 1, 2

## 3SMC6.5CA TR13 PBFREE
designator D?
TVS DIODE 6.5V 11.2V SMC; Manufacturer: Central Semiconductor Corp; Bidirectional Channels: 1; Current - Peak Pulse (10/1000µs): 267.9A; Power Line Protection: No; Power - Peak Pulse: 3000W (3kW); Type: Zener; Voltage - Breakdown (Min): 7.22V; Part Number: 3SMC6.5CA TR13 PBFREE; Applications: General Purpose; ComponentLink1Description: Datasheet; ComponentLink1URL: https://my.centralsemi.com/get_document.php?cmp=1&mergetype=pd&mergepath=pd&pdf_id=3SMC5.0CA_THRU_3SMC170CA.PDF; ComponentLink2Description: DigiKey Link; ComponentLink2URL: http://digikey.com/product-detail/en/central-semiconductor-corp/3SMC6.5CA-TR13-PBFREE/1514-3SMC6.5CATR13PBFREECT-ND/5211135; LastUpdated: 9/2/2020 1:28:06 AM; Lifecycle Status: Active; Minimum Order: 1; Mounting Type: Surface Mount; Operating Temperature: -65°C ~ 150°C (TJ); Package / Case: DO-214AB, SMC; Packaging: TapeAndReel; PartId: 8472; Part Status: Active; Price: 1.96; Series: -; Supplier 1: DigiKey; Supplier Part Number 1: 1514-3SMC6.5CATR13PBFREECT-ND; Supplier Device Package: SMC; Voltage - Clamping (Max) @ Ipp: 11.2V; Voltage - Reverse Standoff (Typ): 6.5V
footprint DO214AB SMC
pins: 1, 2

## 3SMC7.0CA TR13 PBFREE
designator D?
TVS DIODE 7V 12V SMC; Manufacturer: Central Semiconductor Corp; Bidirectional Channels: 1; Current - Peak Pulse (10/1000µs): 250A; Power Line Protection: No; Power - Peak Pulse: 3000W (3kW); Type: Zener; Voltage - Breakdown (Min): 7.78V; Part Number: 3SMC7.0CA TR13 PBFREE; Applications: General Purpose; ComponentLink1Description: Datasheet; ComponentLink1URL: https://my.centralsemi.com/get_document.php?cmp=1&mergetype=pd&mergepath=pd&pdf_id=3SMC5.0CA_THRU_3SMC170CA.PDF; ComponentLink2Description: DigiKey Link; ComponentLink2URL: http://digikey.com/product-detail/en/central-semiconductor-corp/3SMC7.0CA-TR13-PBFREE/1514-3SMC7.0CATR13PBFREECT-ND/5211141; LastUpdated: 9/2/2020 1:28:06 AM; Lifecycle Status: Active; Minimum Order: 1; Mounting Type: Surface Mount; Operating Temperature: -65°C ~ 150°C (TJ); Package / Case: DO-214AB, SMC; Packaging: CutTape; PartId: 8471; Part Status: Active; Price: 3.96; Series: -; Supplier 1: DigiKey; Supplier Part Number 1: 1514-3SMC7.0CATR13PBFREECT-ND; Supplier Device Package: SMC; Voltage - Clamping (Max) @ Ipp: 12V; Voltage - Reverse Standoff (Typ): 7V
footprint DO214AB SMC
pins: 1, 2